# Altium footprint library AXIAL_DIO_0.4_ZENER.PcbLib: 1 footprints
Each footprint in its own frame and in the unit in brackets; x right, y up, seen from the top. Pads: shape width x height; smd on the part's side, far side on the other; paste and mask are expansions set on the pad; w line width, h text height; cw(c..) or ccw(c..) is an arc to the next point about the centre after c.
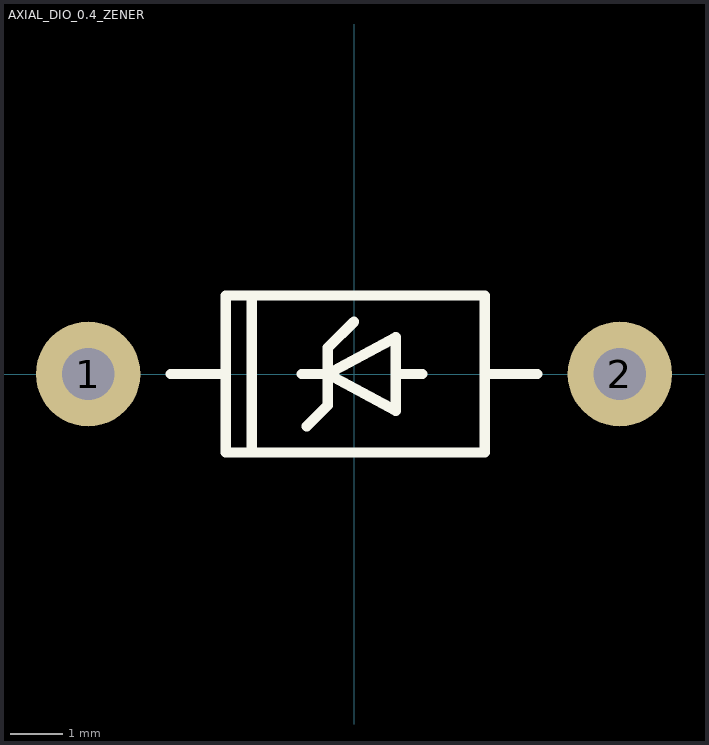
[diagram p0: the footprint, top view; thin cyan lines are the x and y axes]

## AXIAL_DIO_0.4_ZENER [mm] "Axial Diode 0.4\" lead spacing"
pads (2):
  round 2 hole 1: 1(-5.08,0) 2(5.08,0)
Top Overlay:
  lines w0.2: -3.5,0 -2.45,0 ; -1,0 -0.5,0 ; -0.9,-1 -0.5,-0.6 -0.5,0.5 0,1 ; 0.8,0 1.3,0 ; 2.5,0 3.5,0 ; -1.95,-1.5 2.5,-1.5 2.5,1.5 -1.95,1.5 ; -1.95,-1.5 -1.95,1.5 ; -1.95,-1.5 -2.45,-1.5 -2.45,1.5 -1.95,1.5 ; -0.5,0 0.8,0.7 0.8,-0.7 -0.5,0
3D body "AXIAL_DIO_0.4.SLDPRT": height 3.1, standoff -2.4, extent -5.329,-1.5 5.33,1.488